# Altium footprint library led.PCBLIB: 116 footprints (part 1 of 8)
Each footprint in its own frame and in the unit in brackets; x right, y up, seen from the top. Pads: shape width x height; smd on the part's side, far side on the other; paste and mask are expansions set on the pad; w line width, h text height; cw(c..) or ccw(c..) is an arc to the next point about the centre after c.
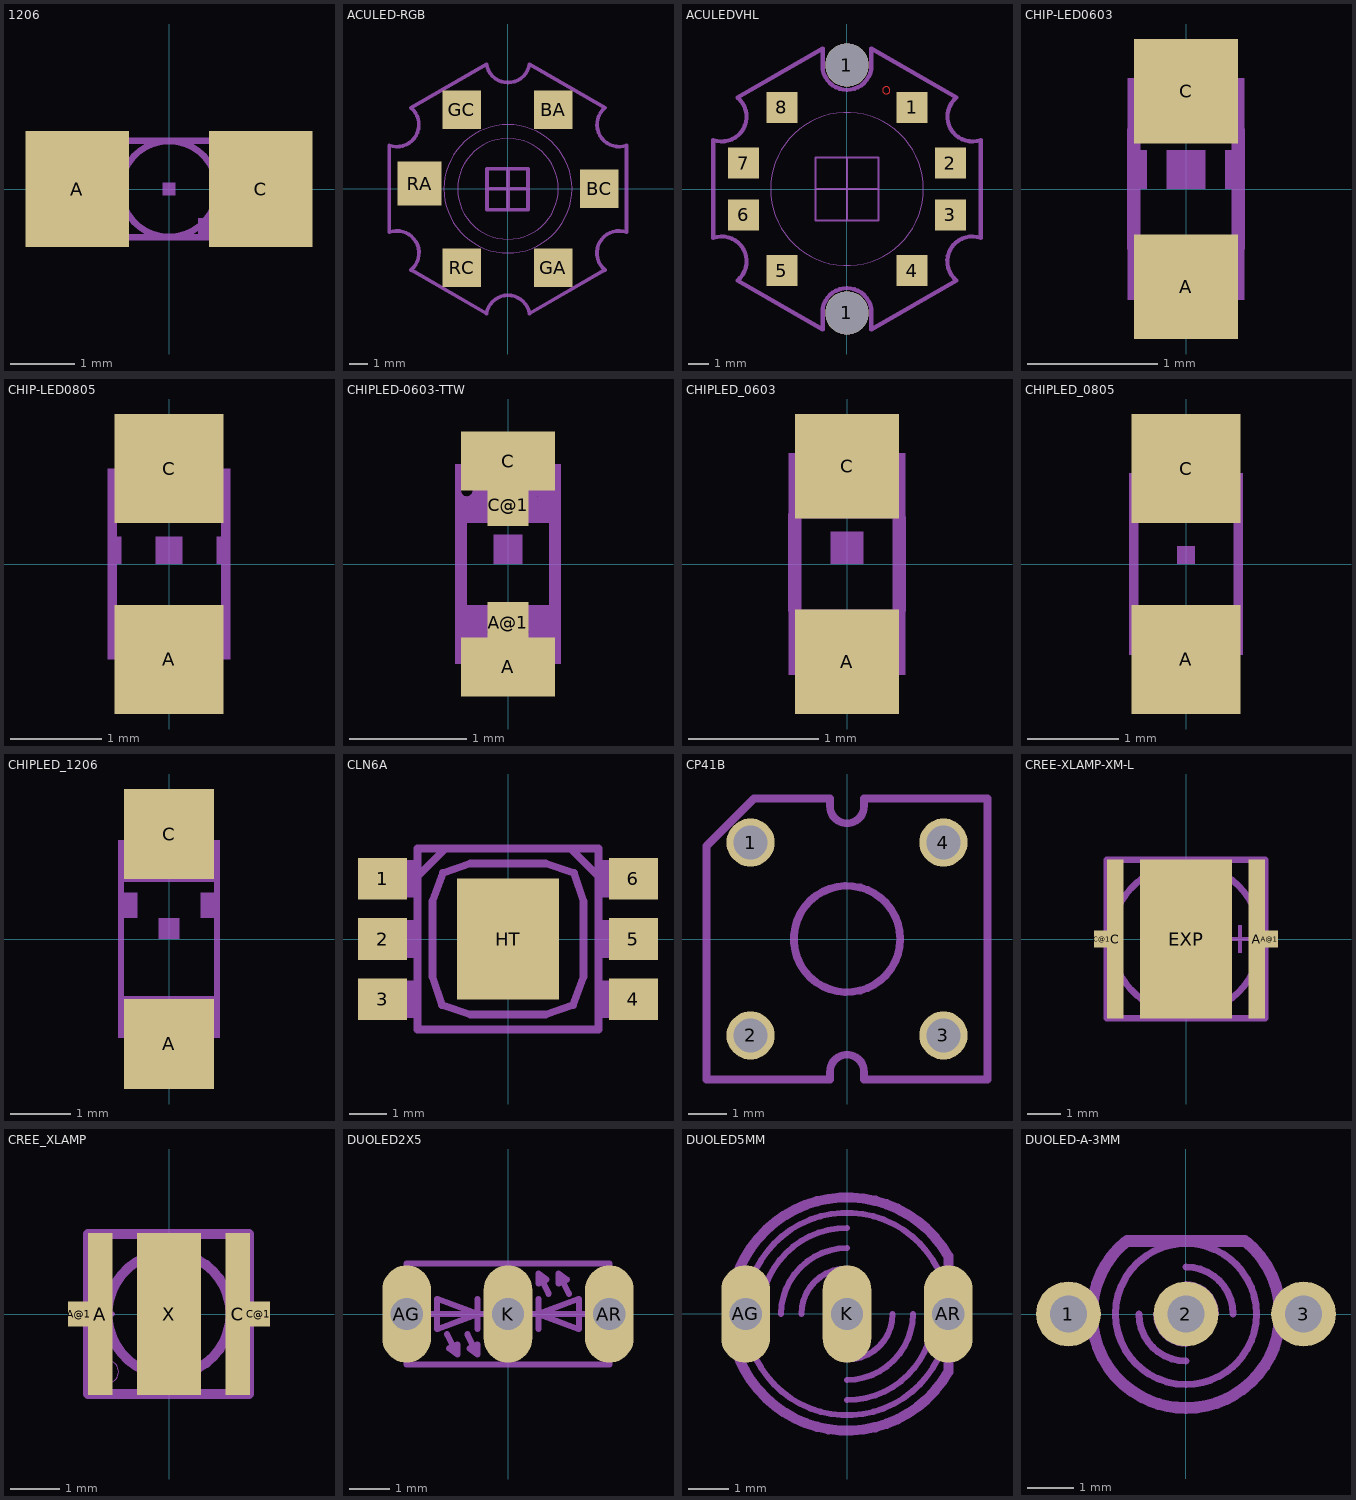
[diagram p0: the footprints below, top view; thin cyan lines are the x and y axes]

## 1206 [mil]
pads (2):
  rect 62.99x70.98 smd: A(-55.98,0) C(55.98,0)
Mechanical 2:
  rectangle: -3.94,-3.94 3.94,3.94
  rectangle: 17.72,-27.56 23.62,-17.72
  lines w4: -21.65,-19.69 ccw(c0,-0.01) 21.65,-19.69 ; -21.65,19.69 cw(c0,0.01) 21.65,19.69
Mechanical 18:
  rectangle: 17.72,-27.56 31.5,-17.72
  rectangle: 31.5,-27.56 35.43,19.69
  rectangle: 31.5,21.65 35.43,27.56
  rectangle: -35.43,-27.56 -31.5,19.69
  rectangle: -35.43,21.65 -31.5,27.56
  lines w4: -21.65,-19.69 cw(c0.01,0) -21.65,19.69 ; 21.65,-19.69 ccw(c-0.01,0) 21.65,19.69 ; -61.02,-29.53 61.02,-29.53 61.02,29.53 -61.02,29.53 -61.02,-29.53

## ACULED-RGB [mil]
pads (6):
  rect 82.68x82.68 smd: BA(97.16,170.03) BC(196.19,0) GA(97.16,-170.03) GC(-99.03,170.03) RC(-99.03,-170.03)
  rect 94.49x94.49 smd: RA(-189.97,11.21)
Mechanical 1:
  circle w0.39: c0,0 r137.8
Mechanical 2:
  circle w0.39: c0,0 r108.27
  lines w8: -208.66,174.21 -46.26,267.72 ccw(c0,275.12) 46.26,267.72 208.66,174.21 ccw(c238.68,137.8) 254.92,93.5 254.92,-93.5 ccw(c238.33,-137.6) 208.66,-174.21 46.26,-267.72 ccw(c0,-275.76) -46.26,-267.72 -208.66,-174.21 ccw(c-238.33,-137.6) -254.92,-93.5 -254.92,93.5 ccw(c-238.55,137.73) -208.44,174.02 ; -44.84,0 -44.84,42.97 0,42.97 ; -44.84,0 -44.84,-44.84 0,-44.84 ; -44.84,0 42.97,0 ; 0,-44.84 42.97,-44.84 42.97,0 ; 0,-44.84 0,42.97 ; 0,42.97 42.97,42.97 42.97,0

## ACULEDVHL [mm]
pads (10):
  round 2.1 hole 2.1: 1(0,-6) 1(0,6)
  rect 1.5x1.5 smd: 1(3.15,3.95) 2(5,1.25) 3(5,-1.25) 4(3.15,-3.95) 5(-3.15,-3.95) 6(-5,-1.25) 7(-5,1.25) 8(-3.15,3.95)
Top Layer:
  circle w0: c1.9,4.775 r0.175
Mechanical 1:
  circle w0.01: c0,0 r3.7
Mechanical 2:
  lines w0.102: -1.524,0 0,0 ; -1.524,0 -1.524,1.524 0,1.524 ; -1.524,0 -1.524,-1.524 0,-1.524 ; 0,-1.524 0,0 ; 0,-1.524 1.524,-1.524 1.524,0 ; 0,0 1.524,0 ; 0,0 0,1.524 ; 0,1.524 1.524,1.524 1.524,0
  lines w0.203: -5.3,4.425 -1.175,6.8 -1.175,5.8 ccw(c0,5.988) 1.175,5.8 1.175,6.8 5.3,4.425 ccw(c6.062,3.5) 6.475,2.375 6.475,-2.375 ccw(c6.054,-3.495) 5.3,-4.425 1.175,-6.8 1.175,-5.8 ccw(c0,-5.988) -1.175,-5.8 -1.175,-6.8 -5.3,-4.425 ccw(c-6.054,-3.495) -6.475,-2.375 -6.475,2.375 ccw(c-6.059,3.498) -5.294,4.42

## CHIP-LED0603 [mil]
pads (2):
  rect 31.5x31.5 smd: A(0,-29.53) C(0,29.53)
Mechanical 2:
  rectangle: -17.72,0 -11.81,11.81
  rectangle: 11.81,0 17.72,11.81
  rectangle: -5.91,0 5.91,11.81
Mechanical 18:
  rectangle: -17.72,17.72 17.72,33.46
  rectangle: -17.72,-33.46 17.72,-17.72
  lines w4: -15.75,-17.72 -15.75,17.72 ; 15.75,-17.72 15.75,17.72

## CHIP-LED0805 [mil]
pads (2):
  rect 47.24x47.24 smd: A(0,-41.34) C(0,41.34)
Mechanical 2:
  rectangle: -26.57,0 -20.67,11.81
  rectangle: 20.67,0 26.57,11.81
  rectangle: -5.91,0 5.91,11.81
Mechanical 18:
  rectangle: -26.57,17.72 26.57,41.34
  rectangle: -26.57,-41.34 26.57,-17.72
  lines w4: -24.61,-17.72 -24.61,17.72 ; 24.61,-18.7 24.61,17.72

## CHIPLED-0603-TTW [mm]
pads (4):
  rect 0.8x0.5 smd paste-0.4 mask-0.4: A(0,-0.875) C(0,0.875)
  rect 0.35x0.35 smd: A@1(0,-0.5) C@1(0,0.5)
Top Solder:
  rectangle: -0.175,0.325 0.175,0.7
  rectangle: -0.4,0.625 0.4,1.125
  rectangle: -0.4,-1.125 0.4,-0.625
  rectangle: -0.175,-0.675 0.175,-0.325
Mechanical 2:
  rectangle: -0.125,0 0.125,0.25
Mechanical 18:
  circle w0.051: c-0.35,0.625 r0.075
  rectangle: -0.45,0.7 -0.25,0.85
  rectangle: -0.275,0.55 -0.225,0.6
  rectangle: -0.45,0.35 -0.4,0.725
  rectangle: 0.25,0.55 0.45,0.85
  rectangle: -0.45,0.35 0.45,0.575
  rectangle: -0.45,-0.85 -0.25,-0.35
  rectangle: 0.25,-0.85 0.45,-0.35
  rectangle: -0.275,-0.575 0.275,-0.35
  rectangle: -0.275,-0.65 -0.175,-0.55
  rectangle: 0.175,-0.65 0.275,-0.55
  lines w0.051: -0.275,-0.825 cw(c0,-0.825) 0.275,-0.825
  lines w0.102: -0.4,-0.35 -0.4,0.375 ; -0.3,0.8 ccw(c0,0.826) 0.3,0.8 ; 0.4,-0.35 0.4,0.35

## CHIPLED_0603 [mil]
pads (2):
  rect 31.5x31.5 smd: A(0,-29.53) C(0,29.53)
Mechanical 2:
  rectangle: -4.92,0 4.92,9.84
Mechanical 18:
  circle w2: c-13.78,24.61 r2.95
  rectangle: -17.72,27.56 -9.84,33.46
  rectangle: -10.83,21.65 -8.86,23.62
  rectangle: -17.72,13.78 -15.75,28.54
  rectangle: 9.84,21.65 17.72,33.46
  rectangle: -17.72,13.78 17.72,22.64
  rectangle: -17.72,-33.46 -9.84,-13.78
  rectangle: 9.84,-33.46 17.72,-13.78
  rectangle: -10.83,-22.64 10.83,-13.78
  rectangle: -10.83,-25.59 -6.89,-21.65
  rectangle: 6.89,-25.59 10.83,-21.65
  lines w2: -10.83,-32.48 cw(c0,-32.48) 10.83,-32.48
  lines w4: -15.75,-13.78 -15.75,14.76 ; -11.81,31.5 ccw(c0,32.53) 11.81,31.5 ; 15.75,-13.78 15.75,13.78

## CHIPLED_0805 [mil]
pads (2):
  rect 47.24x47.24 smd: A(0,-41.34) C(0,41.34)
Mechanical 2:
  rectangle: -3.94,0 3.94,7.87
Mechanical 18:
  circle w4: c-17.72,33.46 r4.06
  rectangle: 11.81,19.69 24.61,39.37
  rectangle: -12.8,19.69 -6.89,29.53
  rectangle: 6.89,19.69 12.8,29.53
  rectangle: -7.87,19.69 7.87,26.57
  rectangle: 11.81,-39.37 24.61,-19.69
  rectangle: -24.61,-39.37 -11.81,-19.69
  rectangle: 6.89,-29.53 12.8,-19.69
  rectangle: -12.8,-29.53 -6.89,-19.69
  rectangle: -7.87,-26.57 7.87,-19.69
  rectangle: -23.62,19.69 -11.81,31.5
  rectangle: -24.61,36.42 -11.81,39.37
  lines w4: -22.64,-19.69 -22.64,36.42 ; -13.78,-36.42 cw(c0,-38.55) 13.78,-36.42 ; -13.78,36.42 ccw(c0,38.55) 13.78,36.42 ; 22.64,-20.67 22.64,20.67

## CHIPLED_1206 [mil]
pads (2):
  rect 59.06x59.06 smd: A(0,-68.9) C(0,68.9)
Mechanical 2:
  rectangle: -33.46,13.78 -20.67,30.51
  rectangle: 20.67,13.78 33.46,30.51
  rectangle: -6.89,0 6.89,13.78
Mechanical 18:
  circle w4: c-21.65,56.1 r3.94
  rectangle: -33.46,60.04 -13.78,64.96
  rectangle: -33.46,48.23 -24.61,61.02
  rectangle: -17.72,48.23 -12.8,57.09
  rectangle: -25.59,48.23 -8.86,53.15
  rectangle: 13.78,51.18 33.46,64.96
  rectangle: 9.84,48.23 33.46,53.15
  rectangle: -33.46,37.4 33.46,49.21
  rectangle: -33.46,-64.96 33.46,-37.4
  lines w4: -31.5,-37.4 -31.5,37.4 ; -15.75,62.99 ccw(c0,64.01) 15.75,62.99 ; 31.5,-37.4 31.5,37.4

## CLN6A [mil]
pads (7):
  rect 51.18x43.31 smd: 1(-130.91,62.99) 2(-130.91,0) 3(-130.91,-62.99) 4(130.91,-62.99) 5(130.91,0) 6(130.91,62.99)
  rect 106.3x125.98 smd: HT(0,0)
Mechanical 2:
  lines w8: -94.49,64.96 -94.49,94.49 -64.96,94.49 ; -94.49,64.96 -94.49,-94.49 94.49,-94.49 94.49,64.96 ; -94.49,64.96 -64.96,94.49 ; -64.96,94.49 64.96,94.49 ; 64.96,94.49 94.49,94.49 94.49,64.96 ; 64.96,94.49 94.49,64.96 ; -78.74,-39.37 -68.9,-68.9 -39.37,-78.74 39.37,-78.74 67.91,-68.9 78.74,-39.37 78.74,39.37 68.9,68.9 39.37,78.74 -39.37,78.74 -67.91,68.9 -78.74,39.37 -78.74,-39.37
Mechanical 18:
  rectangle: -143.7,-19.69 -98.43,19.69
  rectangle: -143.7,43.31 -98.43,82.68
  rectangle: -143.7,-82.68 -98.43,-43.31
  region: 143.7,19.69 98.43,19.69 98.43,-19.69 143.7,-19.69
  region: 143.7,-43.31 98.43,-43.31 98.43,-82.68 143.7,-82.68
  region: 143.7,82.68 98.43,82.68 98.43,43.31 143.7,43.31

## CP41B [mil]
pads (4):
  round 50 hole 35.43: 1(-100,100) 2(-100,-100) 3(100,-100) 4(100,100)
Mechanical 2:
  circle w8: c0,0 r55.12
  lines w8: -145.67,96.46 -145.67,-145.67 -17.72,-145.67 -17.72,-137.8 cw(c0,-137.8) 17.72,-137.8 17.72,-145.67 145.67,-145.67 145.67,145.67 17.72,145.67 17.72,137.8 cw(c0,137.8) -17.72,137.8 -17.72,145.67 -96.46,145.67
Mechanical 18:
  lines w8: -145.67,96.46 -96.46,145.67

## CREE-XLAMP-XM-L [mil]
pads (5):
  rect 19.69x188.98 smd paste-94.49 mask-94.49: A(84.29,0) C(-84.29,0)
  rect 19.69x19.69 smd paste-9.85 mask-9.85: A@1(100,0) C@1(-100,0)
  rect 109.53x188.98 smd paste-94.49 mask-94.49: EXP(0,0)
Top Paste:
  rectangle: -92.52,-92.52 -74.8,92.52
  rectangle: -108.27,-7.68 -92.32,7.87
  rectangle: -50.98,-92.72 51.18,92.52
  region: 92.52,92.52 74.8,92.52 74.8,-92.52 92.52,-92.52
  region: 108.27,7.68 92.32,7.68 92.32,-7.87 108.27,-7.87
Top Solder:
  rectangle: -96.06,-96.46 -72.64,96.06
  rectangle: -111.81,-11.61 -90.35,11.81
  rectangle: -57.28,-96.06 56.69,96.26
  region: 96.06,96.46 72.64,96.46 72.64,-96.26 96.06,-96.26
  region: 111.81,11.61 90.35,11.61 90.35,-11.81 111.81,-11.81
Mechanical 18:
  circle w7.87: c0,0 r89.18
  rectangle: 62.01,-16.54 66.73,16.54
  region: 80.72,-2.37 80.72,2.37 47.64,2.37 47.64,-2.37
  lines w7.87: -94.49,-94.29 -94.49,94.49 94.29,94.49 94.29,-94.29 -94.49,-94.29

## CREE_XLAMP [mm]
pads (5):
  rect 0.5x3.3 smd paste-1.65: A(-1.4,0) C(1.4,0)
  rect 0.45x0.5 smd paste-0.25: A@1(-1.825,0) C@1(1.825,0)
  rect 1.3x3.3 smd paste-1.65: X(0,0)
Top Paste:
  rectangle: -0.6,-1.6 0.6,1.6
  rectangle: -1.6,-1.575 -1.2,1.6
  rectangle: -2,-0.2 -1.575,0.2
  region: 1.6,1.575 1.2,1.575 1.2,-1.6 1.6,-1.6
  region: 2,0.2 1.575,0.2 1.575,-0.2 2,-0.2
Mechanical 18:
  circle w0: c-1.25,-1.175 r0.225
  circle w0.203: c0,0 r1.25
  lines w0.102: -1.525,0 -1.15,0 ; -1.325,-0.175 -1.325,0.175
  lines w0.203: -1.65,-1.625 1.625,-1.625 1.625,1.625 -1.65,1.625 -1.65,-1.625

## DUOLED2X5 [mil]
pads (3):
  oval 48x96 hole 32: AG(-100,0) AR(100,0) K(0,0)
Mechanical 2:
  lines w6: -100,-35 -100,-50 100,-50 100,-35 ; -100,35 -100,50 100,50 100,35
Mechanical 18:
  lines w6: -100,-35 -100,35 ; -85,0 -30,0 ; -60,-20 -50,-40 ; -40,-20 -30,-40 ; -30,-15 -30,0 ; -30,15 -30,0 ; 30,-15 30,0 ; 30,15 30,0 ; 40,20 30,40 ; 60,20 50,40 ; 85,0 30,0 ; 100,-35 100,35 ; -50,-40 -50,-30 -58,-34 -50,-40 ; -30,-40 -30,-30 -38,-34 -30,-40 ; -30,0 -70,15 -70,-15 -30,0 ; -30,0 30,0 ; 30,0 70,-15 70,15 30,0 ; 30,40 30,30 38,34 30,40 ; 50,40 50,30 58,34 50,40

## DUOLED5MM [mil]
pads (3):
  oval 48x96 hole 32: AG(-100,0) AR(100,0) K(0,0)
Mechanical 2:
  lines w6: -94,-34 ccw(c0,0) 94,-34 ; -94,34 cw(c0,0) 94,34
  lines w10: -110,-34 ccw(c0,0) 100.03,-57.02 ; -109.97,33.99 cw(c0,0) 100,57 100,35 ; 100,-57 100,-35
Mechanical 18:
  lines w6: -94,-34 cw(c0,0) -94,34 ; -85,0 cw(c0,0) 0,85 ; -65,0 cw(c0,0) 0,65 ; -45,0 cw(c0,0) 0,45 ; 0,-85 ccw(c0,0) 85,0 ; 0,-65 ccw(c0,0) 65,0 ; 0,-45 ccw(c0,0) 45,0 ; 94,-34 ccw(c0,0) 94,34
  lines w10: -110,-34 cw(c0,0) -110,34 ; 100,-35 100,37

## DUOLED-A-3MM [mil]
pads (3):
  round 55.12 hole 31.5: 1(-100,0) 2(0,0) 3(100,0)
Mechanical 2:
  lines w6: -38.41,-46.09 ccw(c0,0) 0,-60 ccw(c0.01,-0.01) 39.86,-44.85 ; -36,-48 cw(c0,0) -60,0 cw(c0,-0.01) -34.87,48.82 ; 36.83,-47.36 ccw(c0,0) 60,0 ccw(c0,0) 36.83,47.36
  lines w10: -50,62 50,62 ; -37.93,-70.44 ccw(c-0.01,0) 0,-80 ccw(c0,0) 41.93,-68.13
Mechanical 18:
  lines w6: -40,0 ccw(c0,0) 0,-40 ; -39.05,45.56 cw(c-0.01,0) 0,60 cw(c0,0) 38.41,46.09 ; -25,0 ccw(c0,0) 0,-25 ; 0,25 cw(c0,0) 25,0 ; 0,40 cw(c0,0) 40,0
  lines w10: -51.22,61.46 ccw(c0,0.01) -80,0 ccw(c0,-0.01) -37.65,-70.59 ; 39.69,-69.46 ccw(c0.01,-0.01) 80,0 ccw(c0,0) 51.68,61.07